# Altium schematic symbol library 0603N360J500CT.SchLib: 1 symbol
Pins are listed as number, name and electrical type; pins without a type are passive.

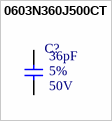
[diagram p0: symbol 0603N360J500CT]

## 0603N360J500CT
designator C?  Rated Voltage: 50V  Tolerance: 5%  Capacitence: 36pF  (hidden comment: 0603N360J500CT)
CAP CER 36PF 50V C0G/NP0 0603; MFR: Walsin Technology Corporation; Temperature Coefficient: C0G; PN: *; ComponentLink1Description: Datasheet; ComponentLink1URL: www.google.com; Package: 0603; Footprint: C0603; Supplier 1: Mouser; Supplier Part Number 1: 791-0603N360J500CT
footprint C0603 (Generic C0603 Footprint)
pins: 1, 2